# EAGLE library part --MERGED_HEADER-MALE-10X2 (library proxmark3_exported_and_modified_components)
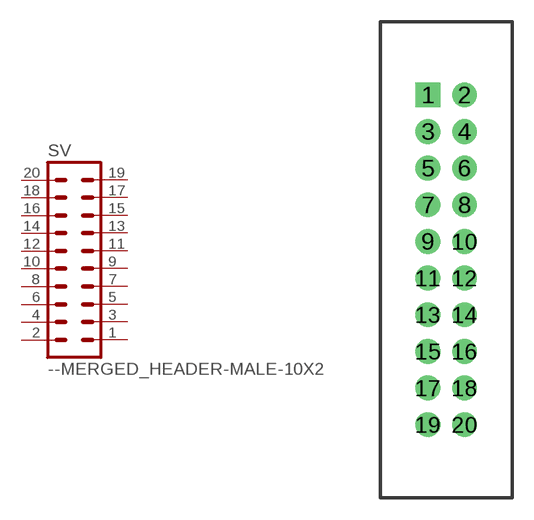
[diagram p5: symbol with the pads of --MERGED_HEADER-MALE-10X2-0.100-SHROUDED; footprint --MERGED_HEADER-MALE-10X2-0.100-SHROUDED]

Designator prefix SV

## --MERGED_HEADER-MALE-10X2  [--MERGED_HEADER-MALE-10X2-0.100-SHROUDED]
1  1  pas
2  2  pas
3  3  pas
4  4  pas
5  5  pas
6  6  pas
7  7  pas
8  8  pas
9  9  pas
10  10  pas
11  11  pas
12  12  pas
13  13  pas
14  14  pas
15  15  pas
16  16  pas
17  17  pas
18  18  pas
19  19  pas
20  20  pas

## Footprint --MERGED_HEADER-MALE-10X2-0.100-SHROUDED (pad centres in mm)
drill 1.143 square: 1 -1.27,11.43
drill 1.143: 2 1.27,11.43; 3 -1.27,8.89; 4 1.27,8.89; 5 -1.27,6.35; 6 1.27,6.35; 7 -1.27,3.81; 8 1.27,3.81; 9 -1.27,1.27; 10 1.27,1.27; 11 -1.27,-1.27; 12 1.27,-1.27; 13 -1.27,-3.81; 14 1.27,-3.81; 15 -1.27,-6.35; 16 1.27,-6.35; 17 -1.27,-8.89; 18 1.27,-8.89; 19 -1.27,-11.43; 20 1.27,-11.43